# EAGLE library part L293D (library My lib)
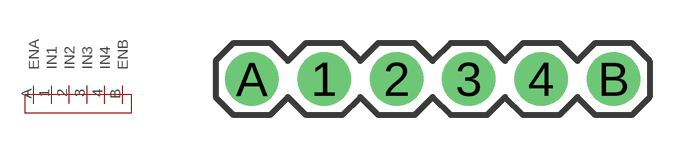
[diagram p1: symbol with the pads of 1X06; footprint 1X06]

Designator prefix -

## L293D  [1X06]
1  IN1
2  IN2
3  IN3
4  IN4
A  ENA
B  ENB

## Footprint 1X06 (pad centres in mm)
Plated Through Hole - 6 Pin Specifications: Pin count:6 Pin pitch:0.1" Example device(s): CONN_06
drill 1.016 pad 1.88: 1 2.54,0; 2 5.08,0; 3 7.62,0; 4 10.16,0; A 0,0; B 12.7,0